# EAGLE library part HDR-100-08 (library con-molex-kk)
HEADER
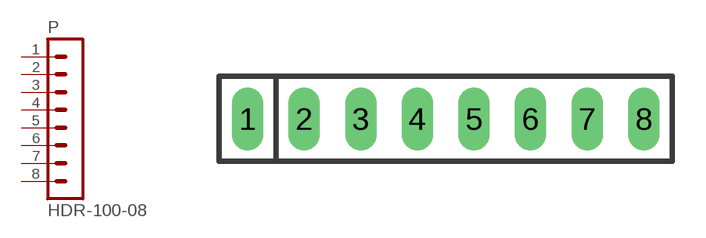
[diagram p154: symbol with the pads of HDR-100-08; footprint HDR-100-08]

Designator prefix P

## HDR-100-08  [HDR-100-08]
1  1  pas
2  2  pas
3  3  pas
4  4  pas
5  5  pas
6  6  pas
7  7  pas
8  8  pas

## Footprint HDR-100-08 (pad centres in mm)
HEADER - pitch 0.1"
drill 0.914 long: 1 -8.89,0; 2 -6.35,0; 3 -3.81,0; 4 -1.27,0; 5 1.27,0; 6 3.81,0; 7 6.35,0; 8 8.89,0